# Altium footprint library FV1206-1.PcbLib: 1 footprints
Each footprint in its own frame and in the unit in brackets; x right, y up, seen from the top. Pads: shape width x height; smd on the part's side, far side on the other; paste and mask are expansions set on the pad; w line width, h text height; cw(c..) or ccw(c..) is an arc to the next point about the centre after c.
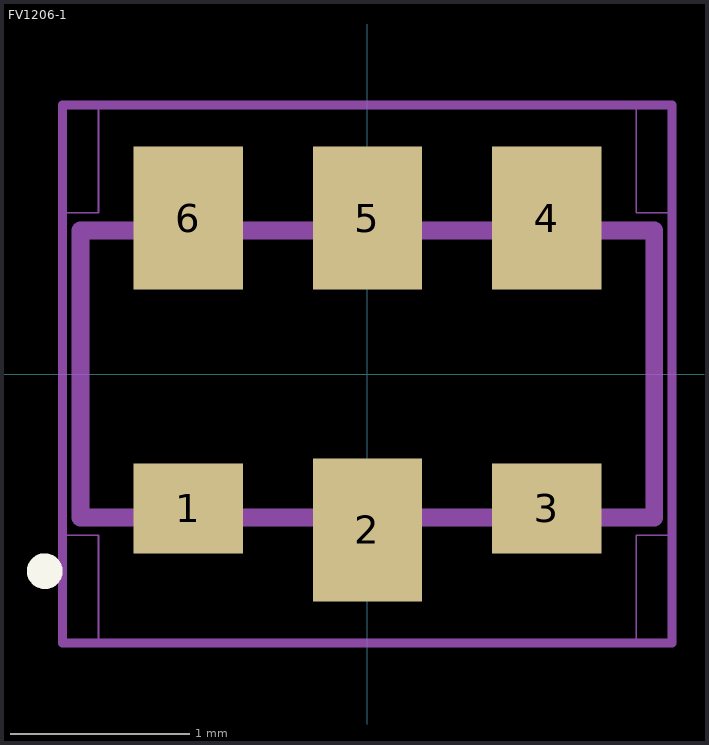
[diagram p0: the footprint, top view; thin cyan lines are the x and y axes]

## FV1206-1 [mm]
height 0.89
pads (6):
  rect 0.61x0.5 smd: 1(-1,-0.75) 3(1,-0.75)
  rect 0.61x0.8 smd: 2(0,-0.87) 4(1,0.87) 5(0,0.87) 6(-1,0.87)
Top Overlay:
  circle w0.1: c-1.8,-1.1 r0.05
Top Courtyard:
  lines w0.1: -1.6,-0.8 1.6,-0.8 1.6,0.8 -1.6,0.8 -1.6,-0.8
Top Component Outline:
  lines w0.01: -1.7,-0.9 -1.5,-0.9 -1.5,-1.5 1.5,-1.5 1.5,-0.9 1.7,-0.9 1.7,0.9 1.5,0.9 1.5,1.5 -1.5,1.5 -1.5,0.9 -1.7,0.9 -1.7,-0.9
Mechanical 15:
  lines w0.05: -1.7,-1.5 1.7,-1.5 1.7,1.5 -1.7,1.5 -1.7,-1.5
3D body: height 0.89, standoff 0, extent -1.6,-0.8 1.6,0.8
3D body: height 0.9, standoff 0, extent 0.745,-0.82 1.245,-0.49
3D body: height 0.9, standoff 0, extent -0.252,-0.82 0.248,-0.49
3D body: height 0.9, standoff 0, extent -1.25,0.49 -0.75,0.82
3D body: height 0.9, standoff 0, extent 0.748,0.49 1.248,0.82
3D body: height 0.9, standoff 0, extent -0.252,0.49 0.248,0.82
3D body: height 0.9, standoff 0, extent -1.25,-0.82 -0.75,-0.49
3D body: height 0.9, standoff 0.8, extent 0.35,-0.2 1.25,0.2